# EAGLE library part TC4431 (library Microchip-TC44xx)
IC, 1.5A High-Speed 30V MOSFET Drivers
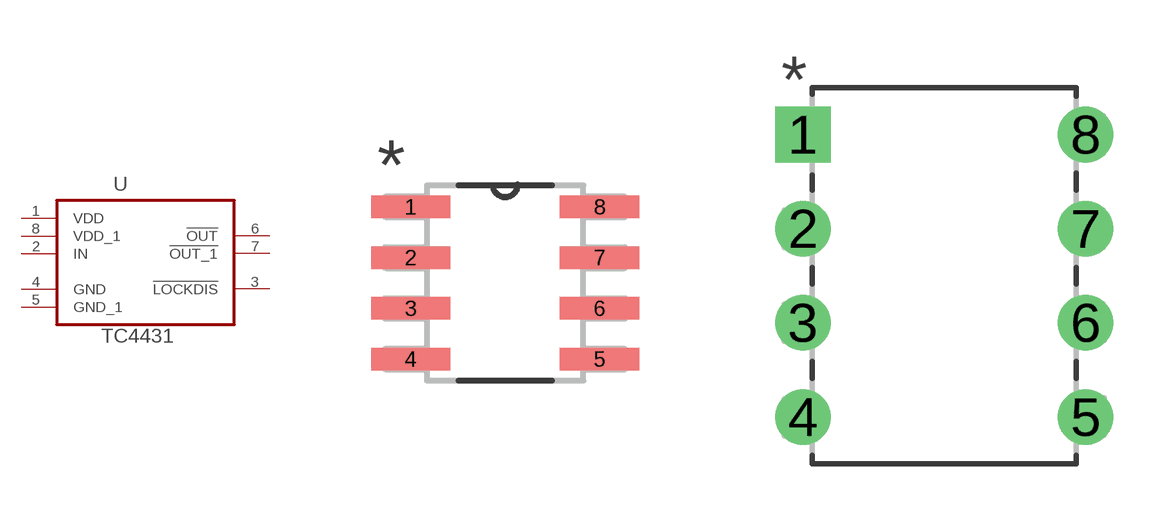
[diagram p8: symbol with the pads of SOIC127P600X175-8N; footprints SOIC127P600X175-8N, DIP254P762X432-8]

Designator prefix U

## TC4431EOA (MPN: TC4431EOA; OC_FARNELL: 1834905; OC_NEWARK: 92C6138; PACKAGE: SOIC-8; SUPPLIER: MICROCHIP)  [SOIC127P600X175-8N]
1  VDD  pwr
2  IN  in
3  !LOCKDIS  nc
4  GND  pas
5  GND_1  nc
6  !OUT  out
7  !OUT_1  out
8  VDD_1  in

## TC4431EPA (MPN: TC4431EPA; OC_FARNELL: 1852208; OC_NEWARK: 92C6140; PACKAGE: DIP-8; SUPPLIER: MICROCHIP)  [DIP254P762X432-8]
Pads as for SOIC127P600X175-8N

## Footprint SOIC127P600X175-8N (pad centres in mm)
smd 1.981 x 0.559: 1 -2.362,1.905; 2 -2.362,0.635; 3 -2.362,-0.635; 4 -2.362,-1.905; 5 2.362,-1.905; 6 2.362,-0.635; 7 2.362,0.635; 8 2.362,1.905

## Footprint DIP254P762X432-8 (pad centres in mm)
drill 0.991 square: 1 -7.62,7.62
drill 0.991: 2 -7.62,5.08; 3 -7.62,2.54; 4 -7.62,0; 5 0,0; 6 0,2.54; 7 0,5.08; 8 0,7.62